# Altium footprint library smd_5050.PcbLib: 1 footprints
Each footprint in its own frame and in the unit in brackets; x right, y up, seen from the top. Pads: shape width x height; smd on the part's side, far side on the other; paste and mask are expansions set on the pad; w line width, h text height; cw(c..) or ccw(c..) is an arc to the next point about the centre after c.
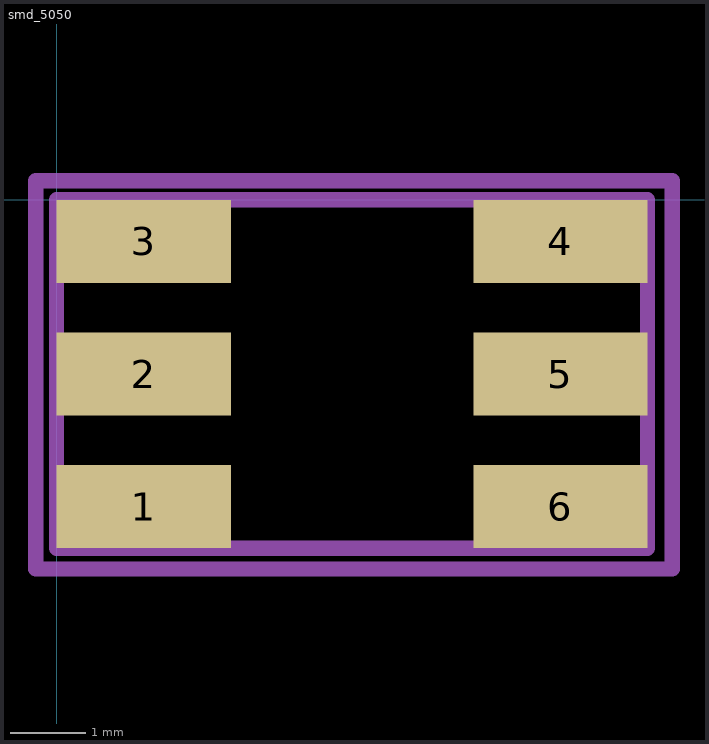
[diagram p0: the footprint, top view; thin cyan lines are the x and y axes]

## smd_5050 [mm]
pads (6):
  rect 2.3x1.1 smd: 1(1.15,-4.05) 2(1.15,-2.3) 3(1.15,-0.55) 4(6.65,-0.55) 5(6.65,-2.3) 6(6.65,-4.05)
Top Assy:
  lines w0.2: 0,-4.6 0,0 7.8,0 7.8,-4.6 0,-4.6
Border:
  lines w0.2: -0.275,-4.875 8.125,-4.875 8.125,0.25 -0.25,0.25 -0.275,0.25 -0.275,-4.875